# EAGLE library part J30J-15 (library CM_J30J)
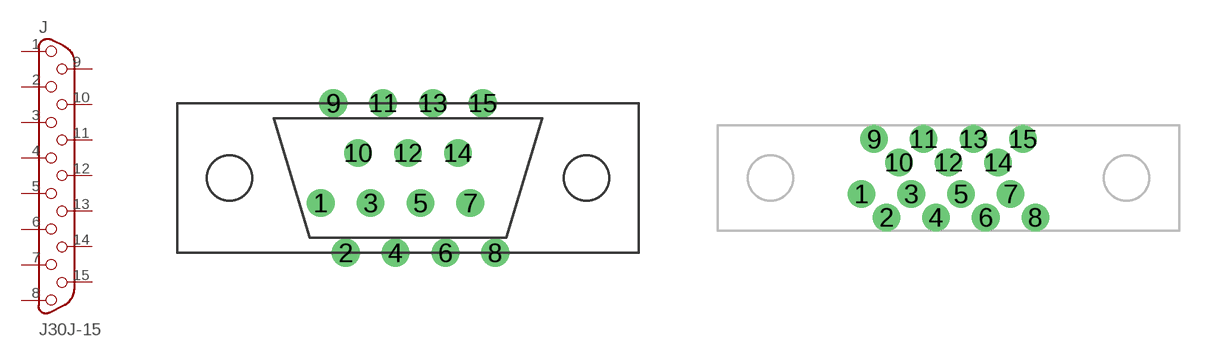
[diagram p1: symbol with the pads of ZKN-15; footprints ZKN-15, ZKN-15-J30]

Designator prefix J

## J30J-15J30J  [ZKN-15]
1  1
2  2
3  3
4  4
5  5
6  6
7  7
8  8
9  9
10  10
11  11
12  12
13  13
14  14
15  15

## J30J-15J30  [ZKN-15-J30]
Pads as for ZKN-15

## Footprint ZKN-15 (pad centres in mm)
drill 0.9: 1 -4.445,-1.27; 2 -3.175,-3.81; 3 -1.905,-1.27; 4 -0.635,-3.81; 5 0.635,-1.27; 6 1.905,-3.81; 7 3.175,-1.27; 8 4.445,-3.81; 9 -3.81,3.81; 10 -2.54,1.27; 11 -1.27,3.81; 12 0,1.27; 13 1.27,3.81; 14 2.54,1.27; 15 3.81,3.81

## Footprint ZKN-15-J30 (pad centres in mm)
drill 0.9: 1 -4.445,-0.8; 2 -3.175,-2; 3 -1.905,-0.8; 4 -0.635,-2; 5 0.635,-0.8; 6 1.905,-2; 7 3.175,-0.8; 8 4.445,-2; 9 -3.81,2; 10 -2.54,0.8; 11 -1.27,2; 12 0,0.8; 13 1.27,2; 14 2.54,0.8; 15 3.81,2